# Altium schematic symbol library Schlib.SchLib: 13 symbols
Pins are listed as number, name and electrical type; pins without a type are passive.

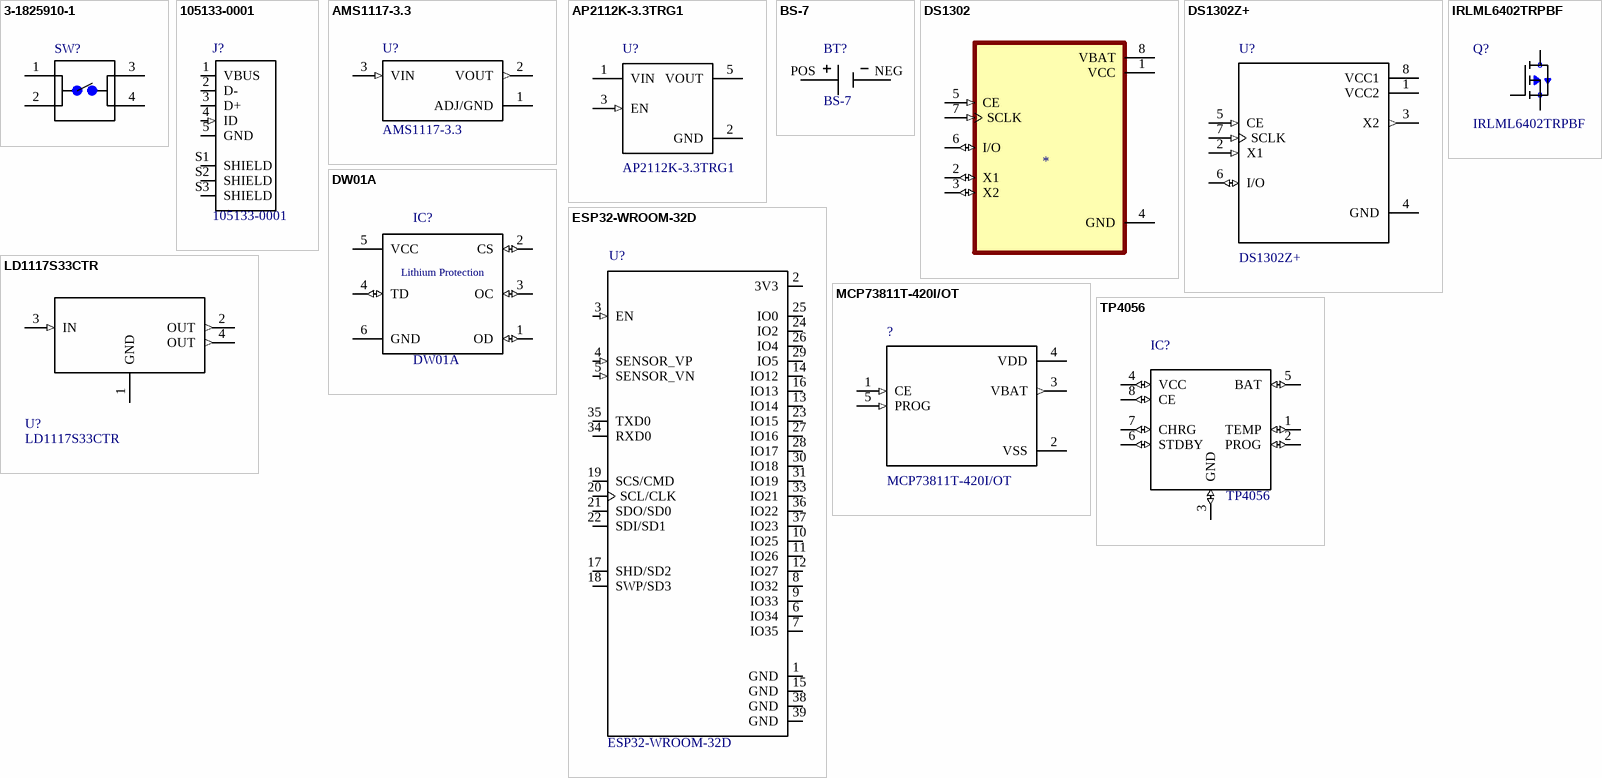
[diagram p0: symbols 3-1825910-1 to TP4056]

## 3-1825910-1
designator SW?  (value not drawn)
Switch Push Button OFF _ON_ SPST Round Button 0.05A 24VDC Momentary Contact PC Pins Thru-Hole; MF: TE Connectivity; SnapEDA_Link: https://www.snapeda.com/parts/3-1825910-1/TE%20Connectivity%20ALCOSWITCH%20Switches/view-part/452461/?ref=snap; Availability: Unavailable; Price: None; EU_RoHS_Compliance: Compliant; MP: 3-1825910-1; Package: None; TE_purchase_URL: https://www.te.com/usa-en/product-3-1825910-1.html?te_bu=Cor&te_type=disp&te_campaign=seda_glo_cor-seda-global-disp-prtnr-fy19-seda-model-bom-cta_sma-317_1&elqCampaignId=32493; Value: *
footprint *TE_3-1825910-1
pins: 1, 2, 3, 4

## 105133-0001
designator J?
USB - micro B USB 2.0 Receptacle Connector 5 Position Surface Mount; MF: Molex; Availability: Unavailable; Package: None; MP: 105133-0001; SnapEDA_Link: https://www.snapeda.com/parts/105133-0001/Molex/view-part/4502677/?ref=snap; Price: None; Value: *
footprint *MOLEX_105133-0001_105133-0001(Primary)
pins: 1 VBUS (power), 2 D- (io), 3 D+ (io), 4 ID (in), 5 GND (power), S1 SHIELD, S2 SHIELD, S3 SHIELD

## AMS1117-3.3
designator U?
Sot223/Pkg 1-Amp 3.3-Volt Low Drop Out Voltage Regulatator; MF: Advanced Monolithic Systems; Price: None; MP: AMS1117-3.3; SnapEDA_Link: https://www.snapeda.com/parts/AMS1117-3.3/Advanced%20Monolithic%20Systems/view-part/53450/?ref=snap; Package: None; Availability: Unavailable; Value: *
footprint *SOT229P700X180-4N
pins: 1 ADJ/GND (power), 2 VOUT (out), 3 VIN (in)

## AP2112K-3.3TRG1
designator U?
Linear Voltage Regulator IC Positive Fixed 1 Output 600mA SOT-25; MF: Diodes Inc.; Availability: Unavailable; Package: SOT-753 Diodes Inc.; MP: AP2112K-3.3TRG1; SnapEDA_Link: https://www.snapeda.com/parts/AP2112K-3.3TRG1/Diodes%20Inc./view-part/454988/?ref=snap; Price: None; Value: *
footprint *SOT95P285X140-5N
pins: 1 VIN (power), 2 GND (power), 3 EN (in), 5 VOUT (power)

## BS-7
designator BT?
BATTERY HOLDER COIN 20MM PC PIN; MF: MPD _Memory; Price: None; Package: None; SnapEDA_Link: https://www.snapeda.com/parts/BS-7/MPD%20%28Memory%20Protection%20Devices%29/view-part/4219629/?ref=snap; Availability: Unavailable; MP: BS-7; Value: *
footprint *BAT_BS-7_BS-7(Primary)
pins: NEG, POS

## DS1302
designator ?
Real Time Clock _RTC_ IC Clock/Calendar 31B 8-DIP _0.300, 7.62mm_; MP: DS1302+; MF: Maxim Integrated; Digi-Key_Part_Number: DS1302+-ND; Value: *; SnapEDA_Link: https://www.snapeda.com/parts/DS1302%2B/Maxim%20Integrated/view-part/211653/?ref=snap; Digi-Key_Purchase_URL: https://www.digikey.co.id/product-detail/en/maxim-integrated/DS1302-/DS1302--ND/956878?utm_source=snapeda&utm_medium=aggregator&utm_campaign=symbol; Package: PDIP-8 Maxim
footprint DIP794W47P254L991H457Q8
pins: 1 VCC (power), 2 X1 (io), 3 X2 (io), 4 GND (power), 5 CE (in), 6 I/O (io), 7 SCLK (in), 8 VBAT (power)

## DS1302Z+
designator U?
Real Time Clock _RTC_ IC Clock/Calendar 31B 3-Wire Serial 8-SOIC _0.154, 3.90mm Width_; MF: Maxim Integrated; Price: None; SnapEDA_Link: https://www.snapeda.com/parts/DS1302Z/Maxim%20Integrated/view-part/2748183/?ref=snap; Availability: Unavailable; Package: SOIC-8 Maxim Integrated; MP: DS1302Z; Value: *
footprint *SOIC127P600X175-8N
pins: 1 VCC2 (power), 2 X1 (in), 3 X2 (out), 4 GND (power), 5 CE (in), 6 I/O (io), 7 SCLK (in), 8 VCC1 (power)

## DW01A
designator IC?
SnapEDA_Link: https://www.snapeda.com/parts/DW01A/Fortune%20Semiconductor/view-part/4388554/?ref=snap; Value: *
footprint *SOT23-6
pins: 1 OD (io), 2 CS (io), 3 OC (io), 4 TD (io), 5 VCC (power), 6 GND (power)
text: Lithium Protection

## ESP32-WROOM-32D
designator U?
Bluetooth, WiFi 802.11b/g/n, Bluetooth v4.2 + EDR, Class 1, 2 and 3 Transceiver Module 2.4GHz ~ 2.5GHz Integrated, Trace Surface Mount; MF: Espressif Systems; Availability: Unavailable; Price: None; SnapEDA_Link: https://www.snapeda.com/parts/ESP32-WROOM-32D/Espressif%20Systems/view-part/2768115/?ref=snap; MP: ESP32-WROOM-32D; Package: Module Espressif Systems; Value: *
footprint *MODULE_ESP32-WROOM-32D
pins: 1 GND (power), 2 3V3 (power), 3 EN (in), 4 SENSOR_VP (in), 5 SENSOR_VN (in), 6 IO34 (io), 7 IO35 (io), 8 IO32 (io), 9 IO33 (io), 10 IO25 (io), 11 IO26 (io), 12 IO27 (io), 13 IO14 (io), 14 IO12 (io), 15 GND (power), 16 IO13 (io), 17 SHD/SD2 (io), 18 SWP/SD3 (io), 19 SCS/CMD (io), 20 SCL/CLK (io), 21 SDO/SD0 (io), 22 SDI/SD1 (io), 23 IO15 (io), 24 IO2 (io), 25 IO0 (io), 26 IO4 (io), 27 IO16 (io), 28 IO17 (io), 29 IO5 (io), 30 IO18 (io), 31 IO19 (io), 33 IO21 (io), 34 RXD0 (io), 35 TXD0 (io), 36 IO22 (io), 37 IO23 (io), 38 GND (power), 39 GND (power)

## IRLML6402TRPBF
designator Q?
SnapEDA_Link: https://www.snapeda.com/parts/IRLML6402TRPBF/Infineon%20Technologies/view-part/523558/?ref=snap; Value: *
footprint *SOT95P237X112-3N
pins: 1 G, 2 S, 3 D

## LD1117S33CTR
designator U?
Linear Voltage Regulator IC 1 Output 800mA SOT-223; MF: STMicroelectronics; Package: SOT-223 STMicroelectronics; MP: LD1117S33CTR; Price: None; Availability: Unavailable; SnapEDA_Link: https://www.snapeda.com/parts/LD1117S33CTR/STMicroelectronics/view-part/46021/?ref=snap; Value: *
footprint *SOT223
pins: 1 GND, 2 OUT (out), 3 IN (in), 4 OUT (out)

## MCP73811T-420I/OT
designator ?
Charger IC Lithium Ion/Polymer SOT-23-5; MF: Microchip; Availability: Unavailable; Package: SOT-23 Microchip; MP: MCP73811T-420I/OT; SnapEDA_Link: https://www.snapeda.com/parts/MCP73811T-420I/OT/Microchip/view-part/53210/?ref=snap; Price: None; Value: *
footprint *SOT95P280X145-5N
pins: 1 CE (in), 2 VSS (power), 3 VBAT (out), 4 VDD (power), 5 PROG (in)

## TP4056
designator IC?
Complete single cell Li-Ion battery with a constant current / constant voltage linear charger; MF: NanJing Top Power ASIC Corp.; Package: Package Analog Devices; Price: None; MP: TP4056; Availability: Unavailable; SnapEDA_Link: https://www.snapeda.com/parts/TP4056%20/NanJing%20Top%20Power%20ASIC%20Corp./view-part/2888426/?ref=snap; Value: *
footprint *SOP-8
pins: 1 TEMP (io), 2 PROG (io), 3 GND (io), 4 VCC (io), 5 BAT (io), 6 STDBY (io), 7 CHRG (io), 8 CE (io)